# Altium footprint library TO.PcbLib: 24 footprints (part 2 of 2)
Each footprint in its own frame and in the unit in brackets; x right, y up, seen from the top. Pads: shape width x height; smd on the part's side, far side on the other; paste and mask are expansions set on the pad; w line width, h text height; cw(c..) or ccw(c..) is an arc to the next point about the centre after c.
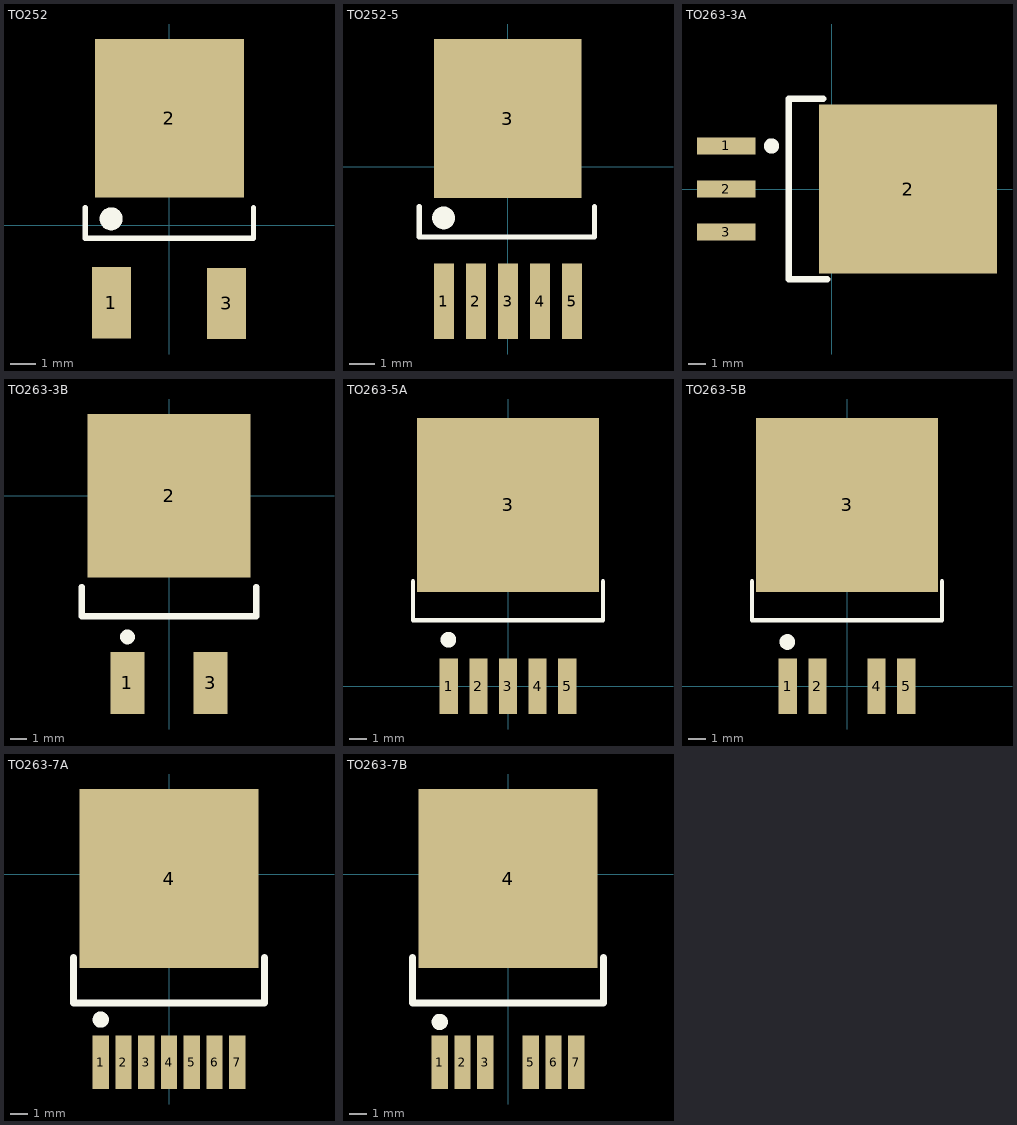
[diagram p1: the footprints below, top view; thin cyan lines are the x and y axes]

## TO252 [mil] "252晶体管"
pads (3):
  rect 60x110 smd: 1(-89.55,-119.77) 3(88.45,-120.77)
  rect 230x245 smd: 2(0,165.35)
Top Overlay:
  circle w19.68: c-90,10 r7.87
  lines w7.87: -130,27.56 -130,-20 130,-20 130,27.56
3D body "TO252.STEP": height 90.55, standoff 0, extent -127.95,-115 127.95,255.84

## TO252-5 [mm] "TO252-5"
pads (6):
  rect 0.8x3 smd: 1(-2.529,-5.328) 2(-1.259,-5.328) 3(0.011,-5.328) 4(1.281,-5.328) 5(2.551,-5.328)
  rect 5.842x6.3 smd: 3(0,1.905)
Top Overlay:
  circle w0.5: c-2.54,-2.032 r0.2
  lines w0.2: -3.504,-1.586 -3.504,-2.794 3.429,-2.794 3.429,-1.586
3D body "TO252-5.STEP": height 2.3, standoff 0, extent -3.398,-5.715 3.302,4.299

## TO263-3A [mm] "263，3脚晶体管"
height 4.5
pads (4):
  rect 3.45x1 smd: 1(-6.225,2.54) 2(-6.225,0) 3(-6.225,-2.54)
  rect 10.5x10 smd: 2(4.5,0)
Top Overlay:
  circle w0.5: c-3.556,2.54 r0.2
  lines w0.381: -0.508,5.334 -2.54,5.334 -2.54,-5.334 -0.254,-5.334
3D body "TO263-3A.STEP": height 4.7, standoff 0, extent -5.461,-5 8.967,5

## TO263-3B [mm] "263，3脚晶体管"
pads (3):
  rect 2.1x3.8 smd: 1(-2.54,-11.45) 3(2.54,-11.45)
  rect 10x10 smd: 2(0,0)
Top Overlay:
  circle w0.5: c-2.54,-8.636 r0.2
  lines w0.381: -5.334,-5.588 -5.334,-7.366 5.334,-7.366 5.334,-5.588
3D body "TO263-3B.STEP": height 4.5, standoff 0, extent -5.08,-10.894 4.92,4.036

## TO263-5A [mm] "263，5脚晶体管"
pads (6):
  rect 1.05x3.2 smd: 1(-3.4,0) 2(-1.7,0) 3(0,0) 4(1.7,0) 5(3.4,0)
  rect 10.45x10 smd: 3(0,10.414)
Top Overlay:
  circle w0.5: c-3.429,2.667 r0.2
  lines w0.254: -5.461,6.037 -5.461,3.787 5.461,3.787 5.461,6.037
3D body "TO263-5A.STEP": height 4.5, standoff 0, extent -5.047,0.702 4.953,14.03

## TO263-5B [mm] "263，5脚晶体管"
pads (5):
  rect 1.05x3.2 smd: 1(-3.4,0) 2(-1.7,0) 4(1.7,0) 5(3.4,0)
  rect 10.45x10 smd: 3(0,10.414)
Top Overlay:
  circle w0.5: c-3.429,2.54 r0.2
  lines w0.254: -5.461,6.037 -5.461,3.787 5.461,3.787 5.461,6.037
3D body "TO263-5B.STEP": height 4.5, standoff 0, extent -5,0.381 5,13.709

## TO263-7A [mm] "263，7脚晶体管"
pads (8):
  rect 0.9x3 smd: 1(-3.81,-10.5) 2(-2.54,-10.5) 3(-1.27,-10.5) 4(0,-10.5) 5(1.27,-10.5) 6(2.54,-10.5) 7(3.81,-10.5)
  rect 10x10 smd: 4(0,-0.254)
Top Overlay:
  circle w0.5: c-3.81,-8.128 r0.2
  lines w0.381: -5.334,-4.658 -5.334,-7.198 5.334,-7.198 5.334,-4.658
3D body "TO263-7A.STEP": height 4.4, standoff 0, extent -5,-10.5 5,2.828

## TO263-7B [mm] "263，7脚晶体管"
pads (7):
  rect 0.9x3 smd: 1(-3.81,-10.5) 2(-2.54,-10.5) 3(-1.27,-10.5) 5(1.27,-10.5) 6(2.54,-10.5) 7(3.81,-10.5)
  rect 10x10 smd: 4(0,-0.254)
Top Overlay:
  circle w0.5: c-3.81,-8.255 r0.2
  lines w0.381: -5.334,-4.658 -5.334,-7.198 5.334,-7.198 5.334,-4.658
3D body "TO263-7B.STEP": height 4.4, standoff 0, extent -5,-10.668 5,2.66